# EAGLE library part NRF24L01+PA+LNA (library RoboJackets-Boards)
NRF24L01+PA+LNA
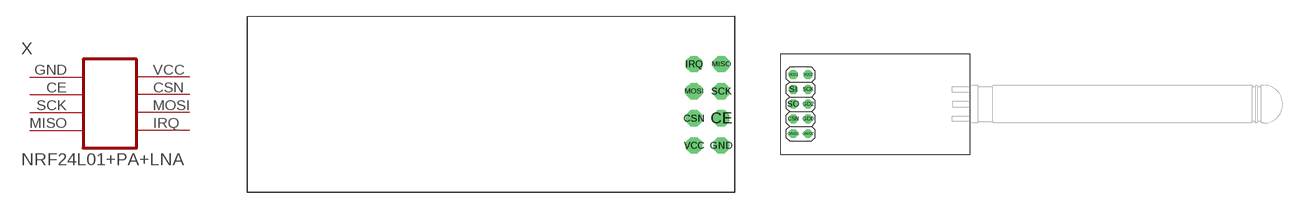
[diagram p7: symbol with the pads of NRF24L01+PA+LNA; footprints NRF24L01+PA+LNA, TI-CC1101]

Designator prefix X

## NRF24L01+PA+LNA  [NRF24L01+PA+LNA]
CE  CE  pas
CSN  CSN  pas
GND  GND  pwr
IRQ  IRQ  pas
MISO  MISO  pas
MOSI  MOSI  pas
SCK  SCK  pas
VCC  VCC  pwr

## NRF24L01+PA+LNATI-CC1101  [TI-CC1101]
CSN  CSN  pas
GD0  CE  pas
GD2  IRQ  pas
GND1  GND  pwr
GND2  GND  pwr
SCK  SCK  pas
SI  MOSI  pas
SO  MISO  pas
VCC1  VCC  pwr
VCC2  VCC  pwr

## Footprint NRF24L01+PA+LNA (pad centres in mm)
PIN HEADER
drill 1.016 octagon: CE 21.59,-0.68; CSN 19.05,-0.68; GND 21.59,-3.22; IRQ 19.05,4.4; MISO 21.59,4.4; MOSI 19.05,1.86; SCK 21.59,1.86; VCC 19.05,-3.22

## Footprint TI-CC1101 (pad centres in mm)
drill 1.016 octagon: CSN -1.27,-2.54; GD0 1.27,-2.54; GD2 1.27,0; GND1 -1.27,-5.08; GND2 1.27,-5.08; SCK 1.27,2.54; SI -1.27,2.54; SO -1.27,0; VCC1 -1.27,5.08; VCC2 1.27,5.08